# EAGLE library part 43045-0600 (library con-molex-micro-fit)
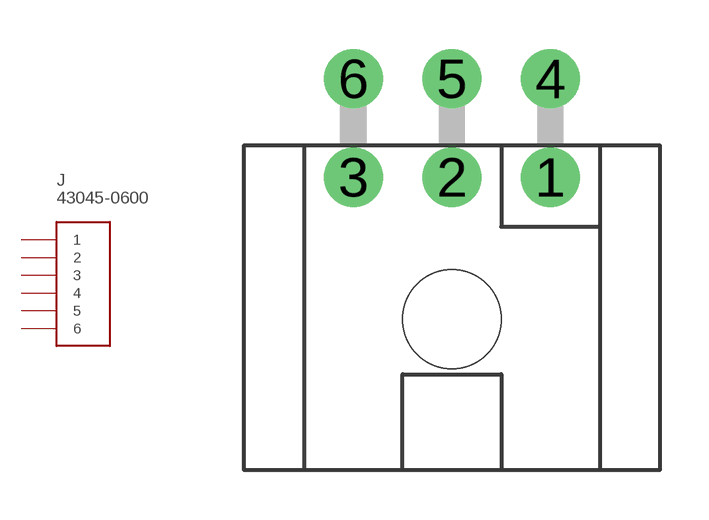
[diagram p3: symbol with the pads of 43045-0600; footprint 43045-0600]

Designator prefix J

## 43045-0600  [43045-0600]
1  1
2  2
3  3
4  4
5  5
6  6

## Footprint 43045-0600 (pad centres in mm)
drill 1.2: 1 3,0; 2 0,0; 3 -3,0; 4 3,3; 5 0,3; 6 -3,3
hole 3 at 0,-4.32